# EAGLE library part ADM3260 (library analog-devices-adm3260)
ADM3260ARSZ
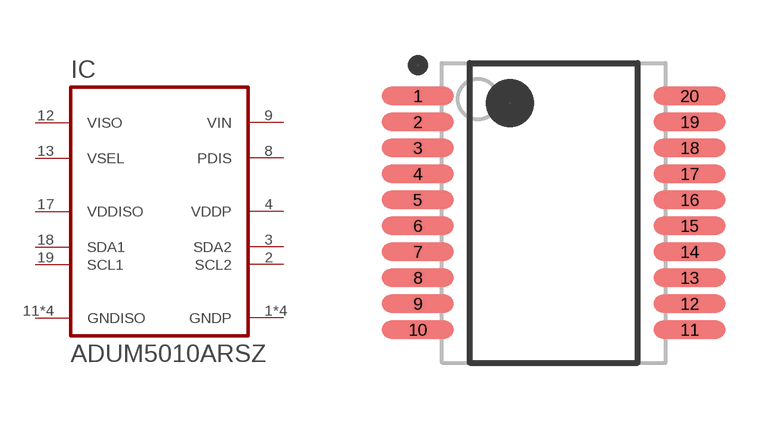
[diagram p0: symbol with the pads of ANALOG_DEVICES_ADUM5010ARSZ_0; footprint ANALOG_DEVICES_ADUM5010ARSZ_0]

Designator prefix IC

## ADM3260 (MOUSER_ORDER_NUMBER: 584-ADM3260ARSZ)  [ANALOG_DEVICES_ADUM5010ARSZ_0]
1  GNDP  pwr
2  SCL2  pwr
3  SDA2  pwr
4  VDDP  pwr
5  GNDP  pwr
7  GNDP  pwr
8  PDIS  pwr
9  VIN  pwr
10  GNDP  pwr
11  GNDISO  pwr
12  VISO  pwr
13  VSEL  pwr
14  GNDISO  pwr
16  GNDISO  pwr
17  VDDISO  pwr
18  SDA1  pwr
19  SCL1  pwr
20  GNDISO  pwr

## Footprint ANALOG_DEVICES_ADUM5010ARSZ_0 (pad centres in mm)
ADI-ADUMX010-RS-20
smd 1.8 x 0.45: 1 -3.4,2.925; 2 -3.4,2.275; 3 -3.4,1.625; 4 -3.4,0.975; 5 -3.4,0.325; 6 -3.4,-0.325; 7 -3.4,-0.975; 8 -3.4,-1.625; 9 -3.4,-2.275; 10 -3.4,-2.925; 11 3.4,-2.925; 12 3.4,-2.275; 13 3.4,-1.625; 14 3.4,-0.975; 15 3.4,-0.325; 16 3.4,0.325; 17 3.4,0.975; 18 3.4,1.625; 19 3.4,2.275; 20 3.4,2.925